# Altium footprint library EVPBV2C3L000.PcbLib: 1 footprints
Each footprint in its own frame and in the unit in brackets; x right, y up, seen from the top. Pads: shape width x height; smd on the part's side, far side on the other; paste and mask are expansions set on the pad; w line width, h text height; cw(c..) or ccw(c..) is an arc to the next point about the centre after c.
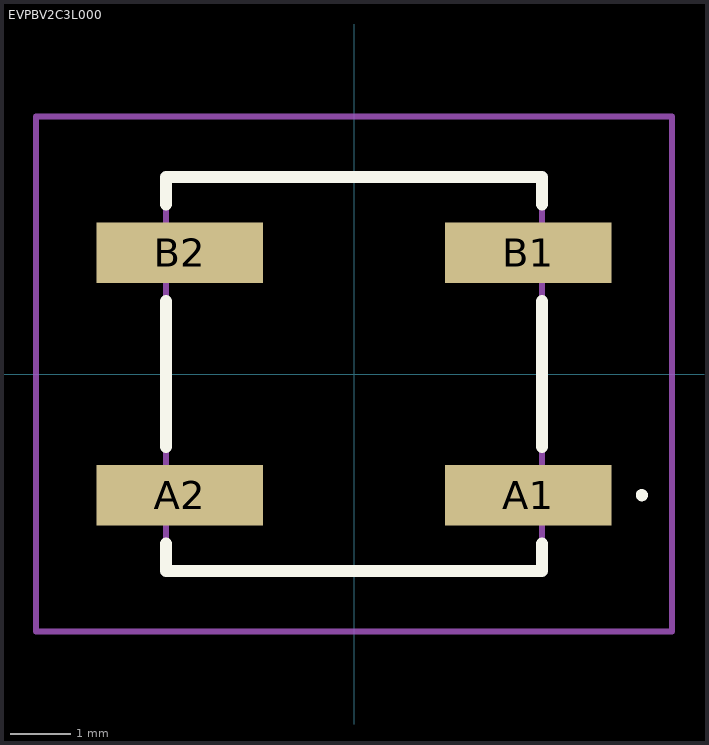
[diagram p0: the footprint, top view; thin cyan lines are the x and y axes]

## EVPBV2C3L000 [mm]
pads (4):
  rect 2.75x1 smd: A1(2.875,-2) A2(-2.875,-2) B1(2.875,2) B2(-2.875,2)
Top Overlay:
  lines w0.1: 4.7,-2 ccw(c4.75,-2) 4.8,-2 ccw(c4.75,-2) 4.7,-2
  lines w0.2: -3.1,-2.8 -3.1,-3.25 3.1,-3.25 3.1,-2.8 ; -3.1,-1.2 -3.1,1.2 ; -3.1,2.8 -3.1,3.25 3.1,3.25 3.1,2.8 ; 3.1,-1.2 3.1,1.2
Mechanical 15:
  lines w0.1: -3.1,-3.25 3.1,-3.25 3.1,3.25 -3.1,3.25 -3.1,-3.25
Mechanical 20:
  lines w0.1: -5.25,-4.25 5.25,-4.25 5.25,4.25 -5.25,4.25 -5.25,-4.25
3D body "Tact Switch SMD 6x6mm.stp": height 4.3, standoff 0, extent -4.5,-2.973 4.5,3.227